# EAGLE library part ARDUINO-NANO (library Dal_V2)
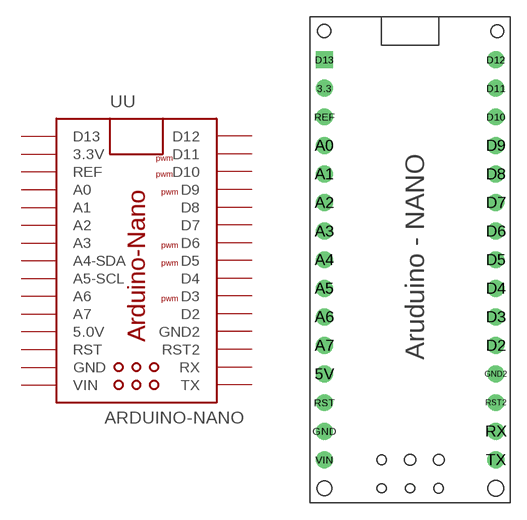
[diagram p8: symbol with the pads of ARDUINO-NANO; footprint ARDUINO-NANO]

Designator prefix UU

## ARDUINO-NANO  [ARDUINO-NANO]
3.3  3.3V
5V  5.0V
A0  A0
A1  A1
A2  A2
A3  A3
A4  A4-SDA
A5  A5-SCL
A6  A6
A7  A7
D2  D2
D3  D3
D4  D4
D5  D5
D6  D6
D7  D7
D8  D8
D9  D9
D10  D10
D11  D11
D12  D12
D13  D13
GND  GND  pwr
GND2  GND2  pas
REF  REF
RST  RST
RST2  RST2
RX  RX
TX  TX
VIN  VIN  pas

## Footprint ARDUINO-NANO (pad centres in mm)
drill 1: 3.3 0,-2.54; 5V 0,-27.94; A0 0,-7.62; A1 0,-10.16; A2 0,-12.7; A3 0,-15.24; A4 0,-17.78; A5 0,-20.32; A6 0,-22.86; A7 0,-25.4; D2 15.24,-25.4; D3 15.24,-22.86; D4 15.24,-20.32; D5 15.24,-17.78; D6 15.24,-15.24; D7 15.24,-12.7; D8 15.24,-10.16; D9 15.24,-7.62; D10 15.24,-5.08; D11 15.24,-2.54; D12 15.24,0; GND 0,-33.02; GND2 15.24,-27.94; REF 0,-5.08; RST 0,-30.48; RST2 15.24,-30.48; RX 15.24,-33.02; TX 15.24,-35.56; VIN 0,-35.56
drill 1 square: D13 0,0